# Altium schematic symbol library ESDA7P120-1U1M.SchLib: 2 symbols
Pins are listed as number, name and electrical type; pins without a type are passive.

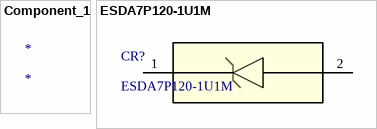
[diagram p0: symbols Component_1 to ESDA7P120-1U1M]

## Component_1
designator *

## ESDA7P120-1U1M
designator CR?
No Description Available; Mfr_Name: STMicroelectronics; Type: DEV; Copyright: Copyright (C) 2023 Ultra Librarian. All rights reserved.; Manufacturer_Part_Number: ESDA7P120-1U1M; RefDes: RefDes
footprint DIODE_ESDA7P120-1U1M_STM
pins: 1, 2